# Altium footprint library EitLib.PcbLib: 29 footprints (part 2 of 2)
Each footprint in its own frame and in the unit in brackets; x right, y up, seen from the top. Pads: shape width x height; smd on the part's side, far side on the other; paste and mask are expansions set on the pad; w line width, h text height; cw(c..) or ccw(c..) is an arc to the next point about the centre after c.
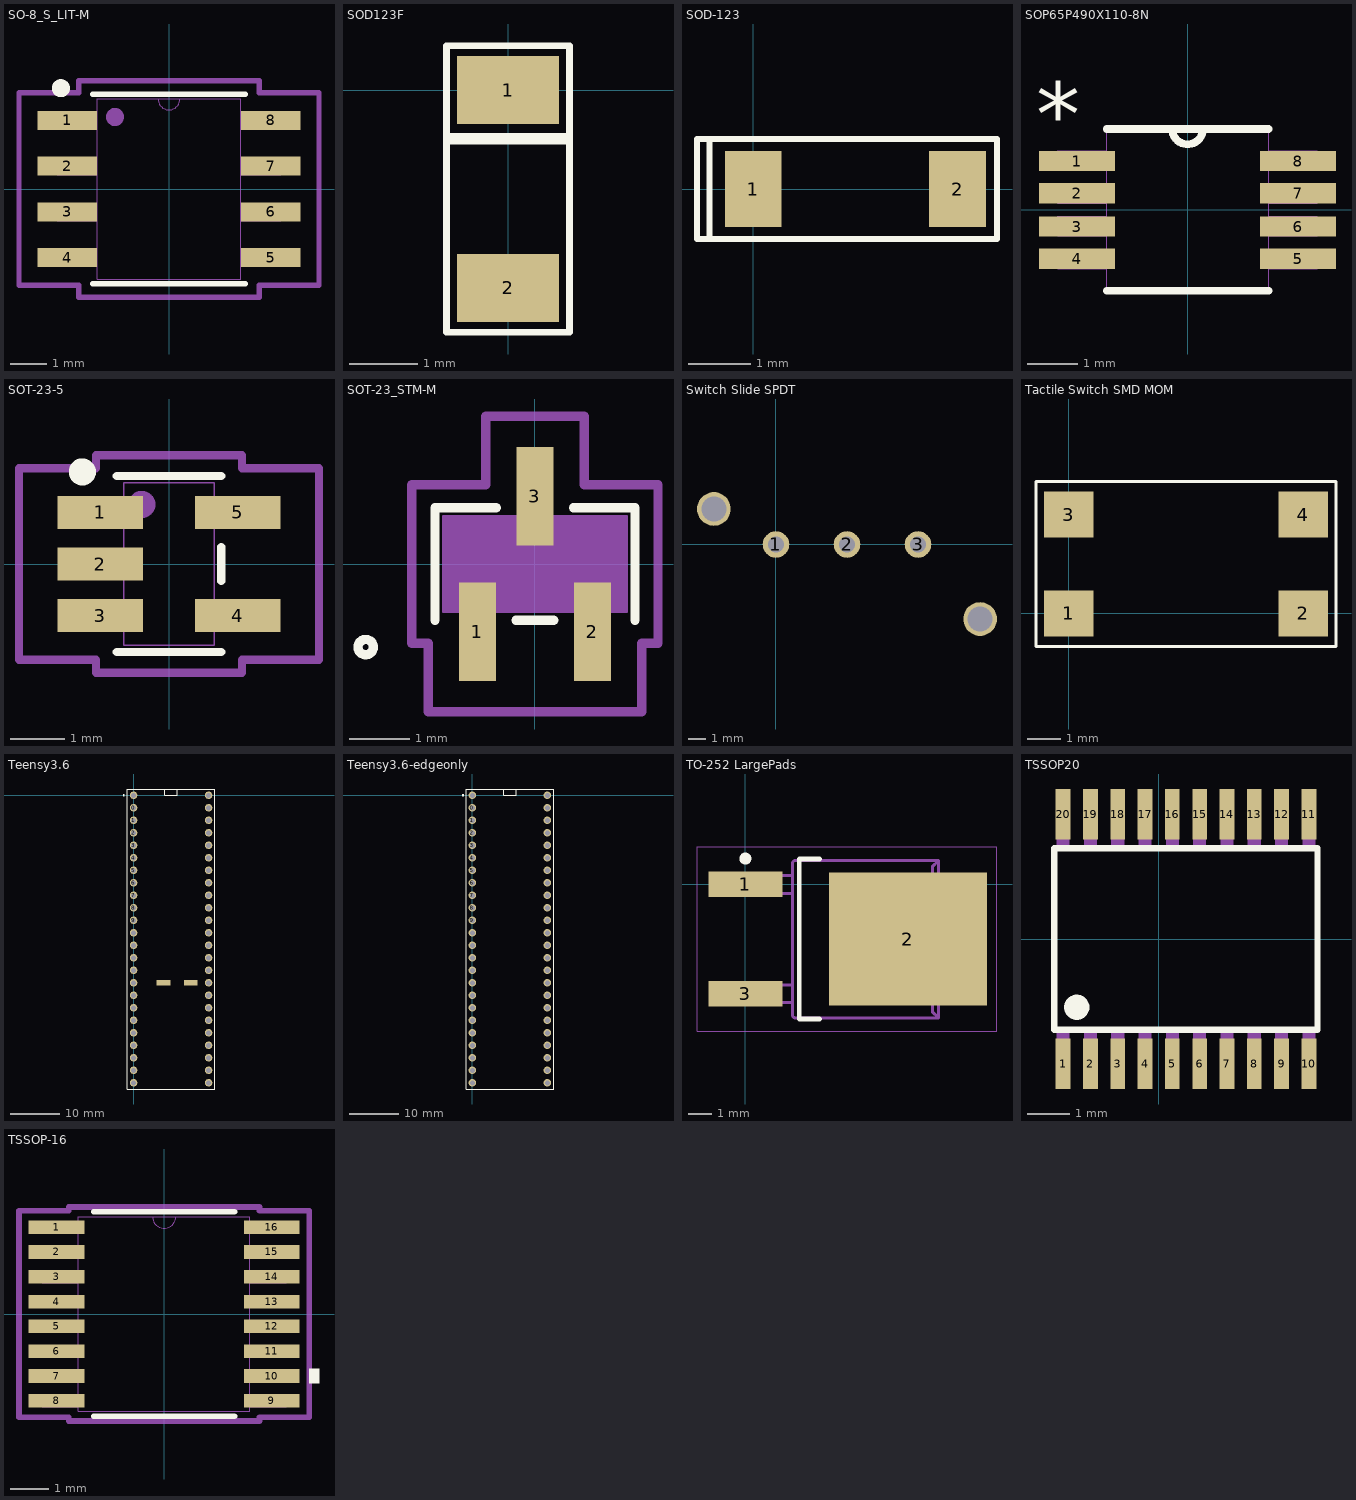
[diagram p1: the footprints below, top view; thin cyan lines are the x and y axes]

## SO-8_S_LIT-M [mil]
pads (8):
  rect 65.5x21 smd paste+0 mask+0: 1(-111.25,75) 2(-111.25,25) 3(-111.25,-25) 4(-111.25,-75) 5(111.25,-75) 6(111.25,-25) 7(111.25,25) 8(111.25,75)
Top Overlay:
  circle w9.84: c-118.11,110.24 r4.92
  lines w6: -83.5,-103.5 83.5,-103.5 ; -83.5,103.5 83.5,103.5
Mechanical 13:
  circle w9.84: c-59.06,78.74 r4.92
  lines w0: -12,98.5 ccw(c0,98.5) 12,98.5
  lines w1: -122,-84.5 -122,-65.5 -78.5,-65.5 -78.5,-84.5 -122,-84.5 ; -122,-34.5 -122,-15.5 -78.5,-15.5 -78.5,-34.5 -122,-34.5 ; -122,15.5 -122,34.5 -78.5,34.5 -78.5,15.5 -122,15.5 ; -122,65.5 -122,84.5 -78.5,84.5 -78.5,65.5 -122,65.5 ; -78.5,-98.5 78.5,-98.5 78.5,98.5 -78.5,98.5 -78.5,-98.5 ; 78.5,-84.5 78.5,-65.5 122,-65.5 122,-84.5 78.5,-84.5 ; 78.5,-34.5 78.5,-15.5 122,-15.5 122,-34.5 78.5,-34.5 ; 78.5,15.5 78.5,34.5 122,34.5 122,15.5 78.5,15.5 ; 78.5,65.5 78.5,84.5 122,84.5 122,65.5 78.5,65.5
Mechanical 15:
  lines w6: -164,-105.5 -164,105.5 -98.5,105.5 -98.5,118.5 98.5,118.5 98.5,105.5 164,105.5 164,-105.5 98.5,-105.5 98.5,-118.5 -98.5,-118.5 -98.5,-105.5 -164,-105.5

## SOD123F [mm]
pads (2):
  rect 1.5x1 smd paste+0 mask+0: 1(0,0) 2(0,-2.9)
Top Overlay:
  lines w0.1: -0.9,-0.75 0.9,-0.75 ; -0.9,-0.675 0.9,-0.675 ; -0.9,-3.55 0.9,-3.55 0.9,0.65 -0.9,0.65 -0.9,-3.55
3D body "CircuitWorks-SOD123.step": height 1.27, standoff 0, extent -0.8,-3.3 0.8,0.4

## SOD-123 [mm]
pads (2):
  rect 0.91x1.22 smd: 1(0,0) 2(3.27,0)
Top Overlay:
  lines w0.1: -0.7,-0.8 -0.9,-0.8 -0.9,0.8 -0.7,0.8 ; -0.7,-0.8 -0.7,0.8 ; -0.7,-0.8 3.9,-0.8 3.9,0.8 -0.7,0.8

## SOP65P490X110-8N [mil]
pads (8):
  rect 59x15.75 smd mask+0: 1(-86,38) 2(-86,13) 3(-86,-13) 4(-86,-38) 5(86,-38) 6(86,-13) 7(86,13) 8(86,38)
Top Overlay:
  lines w6: -63,-63 63,-63 ; -63,63 -12,63 ; 63,63 12,63 ; -12,63 ccw(c0,63) 12,63 ; -12,63 12,63
  text "*" at -118,50 h50
Mechanical 13:
  lines w0: -12,63 ccw(c0,63) 12,63 ; -12,63 12,63 ; -12,63 -63,63 -63,-63 63,-63 63,63 12,63 ; -101,-46 -101,-31 -63,-31 -63,-46 -101,-46 ; -101,-20 -101,-5 -63,-5 -63,-20 -101,-20 ; -101,5 -101,20 -63,20 -63,5 -101,5 ; -101,31 -101,46 -63,46 -63,31 -101,31 ; 63,-46 63,-31 101,-31 101,-46 63,-46 ; 63,-20 63,-5 101,-5 101,-20 63,-20 ; 63,5 63,20 101,20 101,5 63,5 ; 63,31 63,46 101,46 101,31 63,31
  text "*" at -118,50 h50

## SOT-23-5 [mil]
pads (5):
  rect 62x24 smd paste+0 mask+0: 1(-50,37.5) 2(-50,0) 3(-50,-37.5) 4(50,-37.5) 5(50,37.5)
Top Overlay:
  circle w9.84: c-62.99,66.93 r4.92
  lines w6: -38,-64 38,-64 ; -38,64 38,64 ; 38,-12.4 38,12.4
Mechanical 13:
  circle w9.84: c-19.68,43.31 r4.92
  lines w1: -59,-47.5 -33,-47.5 -33,-27.5 -59,-27.5 -59,-47.5 ; -59,-10 -33,-10 -33,10 -59,10 -59,-10 ; -59,27.5 -33,27.5 -33,47.5 -59,47.5 -59,27.5 ; -33,-59 -33,59 33,59 33,-59 -33,-59 ; 33,-47.5 59,-47.5 59,-27.5 33,-27.5 33,-47.5 ; 33,27.5 59,27.5 59,47.5 33,47.5 33,27.5
Mechanical 15:
  lines w6: -109,-69.5 -109,69.5 -53,69.5 -53,79 53,79 53,69.5 109,69.5 109,-69.5 53,-69.5 53,-79 -53,-79 -53,-69.5 -109,-69.5
3D body: height 10, standoff 0, extent 0,0 10,10

## SOT-23_STM-M [mil]
pads (3):
  rect 24x64 smd paste+0 mask+0: 1(-37.4,-44) 2(37.4,-44) 3(0,44)
Top Overlay:
  circle w6: c-110,-54 r5
  lines w6: -65,-36.5 -65,36.5 -25.1,36.5 ; -12.3,-36.5 12.3,-36.5 ; 25.1,36.5 65,36.5 65,-36.5
Mechanical 13:
  circle w0: c-50,-21.5 r5
  lines w1: -60,-31.5 -60,31.5 60,31.5 60,-31.5 -60,-31.5 ; -47.4,-54 -27.4,-54 -27.4,-31.5 -47.4,-31.5 -47.4,-54 ; -10,31.5 -10,54 10,54 10,31.5 -10,31.5 ; 27.4,-54 47.4,-54 47.4,-31.5 27.4,-31.5 27.4,-54
Mechanical 15:
  region: 60,-31.5 -60,-31.5 -60,31.5 60,31.5
  lines w6: -80,-51.5 -69.4,-51.5 -69.4,-96 69.4,-96 69.4,-51.5 80,-51.5 80,51.5 32,51.5 32,96 -32,96 -32,51.5 -80,51.5 -80,-51.5
3D body: height 10, standoff 0, extent 0,0 10,10
3D body "SOT-23_STM.step": height 55.12, standoff 0, extent -60,-52.91 60,55.12

## Switch Slide SPDT [mm]
pads (5):
  round 1.5 hole 0.9 paste+0 mask+0: 1(0,0) 2(4,0) 3(8,0)
  round 1.9 hole 1.4 paste+0 mask+0: ""(-3.5,2) ""(11.5,-4.2)
3D body "c-1825255-1-a-3d.stp": height 12.1, standoff -3.4, extent -4,-4.45 12,2.25

## Tactile Switch SMD MOM [mm]
pads (4):
  rect 1.5x1.4 smd paste+0 mask+0: 1(0,0) 2(7.1,0) 3(0,3) 4(7.1,3)
Top Overlay:
  lines w0.1: -1,-1 8.1,-1 8.1,4 -1,4 -1,-1
3D body "TL3305BFxxxxG.stp": height 4.9, standoff -0.1, extent -0.25,-0.75 7.25,3.75

## Teensy3.6 [mil]
pads (50):
  round 60 hole 40: 0(0,-100) 1(0,-200) 2(0,-300) 3(0,-400) 3.3V1(0,-1400) 3.3V2(600,-200) 4(0,-500) 5(0,-600) 6(0,-700) 7(0,-800) 8(0,-900) 9(0,-1000) 10(0,-1100) 11(0,-1200) 12(0,-1300) 13(600,-1300) 14(600,-1200) 15(600,-1100) 16(600,-1000) 17(600,-900) 18(600,-800) 19(600,-700) 20(600,-600) 21(600,-500) 22(600,-400) 23(600,-300) 24(0,-1500) 25(0,-1600) 26(0,-1700) 27(0,-1800) 28(0,-1900) 29(0,-2000) 30(0,-2100) 31(0,-2200) 32(0,-2300) 33(600,-2300) 34(600,-2200) 35(600,-2100) 36(600,-2000) 37(600,-1900) 38(600,-1800) 39(600,-1700) A21(600,-1600) A22(600,-1500) AGND(600,-100) GND1(0,0) GND2(600,-1400) VIN(600,0)
  rect 109.84x40.16 smd: 40(240,-1500) 41(457.64,-1500)
Top Overlay:
  circle w9.84: c-78.74,0 r4.92
  lines w7.87: 250,50 250,0 350,0 350,50 ; -50,-2350 650,-2350 650,50 -50,50 -50,-2350
3D body: height 496.06, standoff 433.07, extent -50,-2350 650,50

## Teensy3.6-edgeonly [mil]
pads (48):
  round 60 hole 40: 0(0,-100) 1(0,-200) 2(0,-300) 3(0,-400) 3.3V1(0,-1400) 3.3V2(600,-200) 4(0,-500) 5(0,-600) 6(0,-700) 7(0,-800) 8(0,-900) 9(0,-1000) 10(0,-1100) 11(0,-1200) 12(0,-1300) 13(600,-1300) 14(600,-1200) 15(600,-1100) 16(600,-1000) 17(600,-900) 18(600,-800) 19(600,-700) 20(600,-600) 21(600,-500) 22(600,-400) 23(600,-300) 24(0,-1500) 25(0,-1600) 26(0,-1700) 27(0,-1800) 28(0,-1900) 29(0,-2000) 30(0,-2100) 31(0,-2200) 32(0,-2300) 33(600,-2300) 34(600,-2200) 35(600,-2100) 36(600,-2000) 37(600,-1900) 38(600,-1800) 39(600,-1700) A21(600,-1600) A22(600,-1500) AGND(600,-100) GND1(0,0) GND2(600,-1400) VIN(600,0)
Top Overlay:
  circle w9.84: c-74.8,0 r4.92
  lines w7.87: 250,50 250,0 350,0 350,50 ; -50,-2350 650,-2350 650,50 -50,50 -50,-2350
3D body: height 496.06, standoff 433.07, extent -50,-2350 650,50

## TO-252 LargePads [mm]
pads (3):
  rect 3.1x1.05 smd paste+0 mask+0.051: 1(0,0) 3(0,-4.58)
  rect 6.6x5.55 smd paste-3.287 mask+0.051: 2(6.8,-2.29)
Top Overlay:
  circle w0.25: c0,1.075 r0.125
  lines w0.2: 3.1,-5.64 2.25,-5.64 2.25,1.06 3.1,1.06
Top Paste:
  drawing of 20 lines, arcs and shapes, not listed
Mechanical 13:
  lines w0.127: 1.974,-0.39 0.717,-0.39 0.317,-0.39 ; 1.974,0.36 0.717,0.36 0.317,0.36 ; -0.425,-4.955 -0.425,-4.205 ; -0.425,-4.955 0.117,-4.955 ; -0.425,-4.955 -0.425,-4.205 ; -0.425,-4.955 0.117,-4.955 ; -0.425,-4.955 -0.425,-4.205 ; -0.425,-4.955 0.117,-4.955 ; -0.425,-4.205 0.117,-4.205 ; -0.425,-4.205 0.117,-4.205 ; -0.425,-4.205 0.117,-4.205 ; 0.117,-4.955 0.317,-4.955 ; 0.117,-4.955 0.317,-4.955 ; 0.117,-4.955 0.317,-4.955 ; 0.117,-4.205 0.317,-4.205 ; 0.117,-4.205 0.317,-4.205 ; 0.117,-4.205 0.317,-4.205 ; 0.317,-4.955 0.717,-4.955 ; 0.317,-4.955 0.317,-4.205 ; 0.317,-4.955 0.717,-4.955 ; 0.317,-4.955 0.317,-4.205 ; 0.317,-4.955 0.717,-4.955 ; 0.317,-4.955 0.317,-4.205 ; 0.317,-4.205 0.717,-4.205 ; 0.317,-4.205 0.717,-4.205 ; 0.317,-4.205 0.717,-4.205 ; 0.317,-0.39 0.317,0.36 ; 0.317,-0.39 0.117,-0.39 -0.425,-0.39 -0.425,0.36 0.117,0.36 0.317,0.36 ; 0.717,-4.955 1.974,-4.955 ; 0.717,-4.955 1.974,-4.955 ; 0.717,-4.955 1.974,-4.955 ; 0.717,-4.205 1.974,-4.205 ; 0.717,-4.205 1.974,-4.205 ; 0.717,-4.205 1.974,-4.205 ; 1.974,-4.955 1.974,-5.447 1.974,-5.519 2.045,-5.59 8.074,-5.59 ; 1.974,-4.955 1.974,-4.205 ; 1.974,-4.955 1.974,-4.205 ; 1.974,-4.955 1.974,-4.205 ; 1.974,-4.205 1.974,0.847 1.974,0.919 2.045,0.99 8.074,0.99 ; 8.074,-5.59 7.822,-5.338 7.822,0.738 8.074,0.99 ; 8.074,-5.59 8.074,-4.98 9.274,-4.98 9.274,-4.3 8.782,-4.3 8.782,-0.3 9.274,-0.3 9.274,0.38 8.074,0.38 8.074,0.99
Mechanical 15:
  lines w0.05: -2.025,-6.14 -2.025,1.56 10.525,1.56 10.525,-6.14 -2.025,-6.14
  lines w0.1: 3.75,-2.29 4.75,-2.29 ; 4.25,-2.79 4.25,-1.79
3D body: height 0.25, standoff 0, extent 4.25,-2.29 4.504,-2.036

## TSSOP20 [mm]
pads (20):
  rect 0.35x1.2 smd: 1(-2.275,-2.97) 2(-1.625,-2.97) 3(-0.975,-2.97) 4(-0.325,-2.97) 5(0.325,-2.97) 6(0.975,-2.97) 7(1.625,-2.97) 8(2.275,-2.97) 9(2.925,-2.97) 10(3.575,-2.97) 11(3.575,2.97) 12(2.925,2.97) 13(2.275,2.97) 14(1.625,2.97) 15(0.975,2.97) 16(0.325,2.97) 17(-0.325,2.97) 18(-0.975,2.97) 19(-1.625,2.97) 20(-2.275,2.97)
Top Overlay:
  circle w0.3: c-1.95,-1.625 r0.15
  lines w0.152: -2.481,-2.158 -2.481,2.158 3.78,2.158 3.78,-2.158 -2.481,-2.158
Mechanical 13:
  region: 3.725,2.225 3.425,2.225 3.425,3.325 3.725,3.325
  region: 3.075,2.225 2.775,2.225 2.775,3.325 3.075,3.325
  region: 3.725,-3.325 3.425,-3.325 3.425,-2.225 3.725,-2.225
  region: 3.075,-3.325 2.775,-3.325 2.775,-2.225 3.075,-2.225
  region: -2.125,2.225 -2.425,2.225 -2.425,3.325 -2.125,3.325
  region: -1.475,2.225 -1.775,2.225 -1.775,3.325 -1.475,3.325
  region: -0.825,2.225 -1.125,2.225 -1.125,3.325 -0.825,3.325
  region: -0.175,2.225 -0.475,2.225 -0.475,3.325 -0.175,3.325
  region: 0.475,2.225 0.175,2.225 0.175,3.325 0.475,3.325
  region: 1.125,2.225 0.825,2.225 0.825,3.325 1.125,3.325
  region: 1.775,2.225 1.475,2.225 1.475,3.325 1.775,3.325
  region: 2.425,2.225 2.125,2.225 2.125,3.325 2.425,3.325
  region: 2.425,-3.325 2.125,-3.325 2.125,-2.225 2.425,-2.225
  region: 1.775,-3.325 1.475,-3.325 1.475,-2.225 1.775,-2.225
  region: 1.125,-3.325 0.825,-3.325 0.825,-2.225 1.125,-2.225
  region: 0.475,-3.325 0.175,-3.325 0.175,-2.225 0.475,-2.225
  region: -0.175,-3.325 -0.475,-3.325 -0.475,-2.225 -0.175,-2.225
  region: -0.825,-3.325 -1.125,-3.325 -1.125,-2.225 -0.825,-2.225
  region: -1.475,-3.325 -1.775,-3.325 -1.775,-2.225 -1.475,-2.225
  region: -2.125,-3.325 -2.425,-3.325 -2.425,-2.225 -2.125,-2.225

## TSSOP-16 [mil]
pads (16):
  rect 57.56x13.97 smd paste+0 mask+0: 1(-111,89.57) 2(-111,63.98) 3(-111,38.39) 4(-111,12.8) 5(-111,-12.8) 6(-111,-38.39) 7(-111,-63.98) 8(-111,-89.57) 9(111,-89.57) 10(111,-63.98) 11(111,-38.39) 12(111,-12.8) 13(111,12.8) 14(111,38.39) 15(111,63.98) 16(111,89.57)
Top Overlay:
  region: 149.78,-56.48 159.78,-56.48 159.78,-71.48 149.78,-71.48
  lines w6: -72.65,-105.5 72.65,-105.5 ; -72.65,105.5 72.65,105.5
  text "." at -125.98,114.17 h196.85
Mechanical 13:
  lines w0: -12,100.5 ccw(c0,100.5) 12,100.5
  lines w1: -126,-95.57 -88.5,-95.57 -88.5,-83.57 -126,-83.57 -126,-95.57 ; -126,-69.98 -88.5,-69.98 -88.5,-57.98 -126,-57.98 -126,-69.98 ; -126,-44.39 -88.5,-44.39 -88.5,-32.39 -126,-32.39 -126,-44.39 ; -126,-18.8 -88.5,-18.8 -88.5,-6.8 -126,-6.8 -126,-18.8 ; -126,6.8 -88.5,6.8 -88.5,18.8 -126,18.8 -126,6.8 ; -126,32.39 -88.5,32.39 -88.5,44.39 -126,44.39 -126,32.39 ; -126,57.98 -88.5,57.98 -88.5,69.98 -126,69.98 -126,57.98 ; -126,83.57 -88.5,83.57 -88.5,95.57 -126,95.57 -126,83.57 ; -88.5,-100.5 -88.5,100.5 88.5,100.5 88.5,-100.5 -88.5,-100.5 ; 88.5,-95.57 126,-95.57 126,-83.57 88.5,-83.57 88.5,-95.57 ; 88.5,-69.98 126,-69.98 126,-57.98 88.5,-57.98 88.5,-69.98 ; 88.5,-44.39 126,-44.39 126,-32.39 88.5,-32.39 88.5,-44.39 ; 88.5,-18.8 126,-18.8 126,-6.8 88.5,-6.8 88.5,-18.8 ; 88.5,6.8 126,6.8 126,18.8 88.5,18.8 88.5,6.8 ; 88.5,32.39 126,32.39 126,44.39 88.5,44.39 88.5,32.39 ; 88.5,57.98 126,57.98 126,69.98 88.5,69.98 88.5,57.98 ; 88.5,83.57 126,83.57 126,95.57 88.5,95.57 88.5,83.57
  text "*" at -86,47.5 h50
Mechanical 15:
  lines w6: -149.78,-106.55 -98.5,-106.55 -98.5,-110.5 98.5,-110.5 98.5,-106.55 149.78,-106.55 149.78,106.55 98.5,106.55 98.5,110.5 -98.5,110.5 -98.5,106.55 -149.78,106.55 -149.78,-106.55
3D body: height 10, standoff 0, extent 0,0 10,10